# Altium footprint library Adeept.PcbLib: 37 footprints (part 3 of 3)
Each footprint in its own frame and in the unit in brackets; x right, y up, seen from the top. Pads: shape width x height; smd on the part's side, far side on the other; paste and mask are expansions set on the pad; w line width, h text height; cw(c..) or ccw(c..) is an arc to the next point about the centre after c.
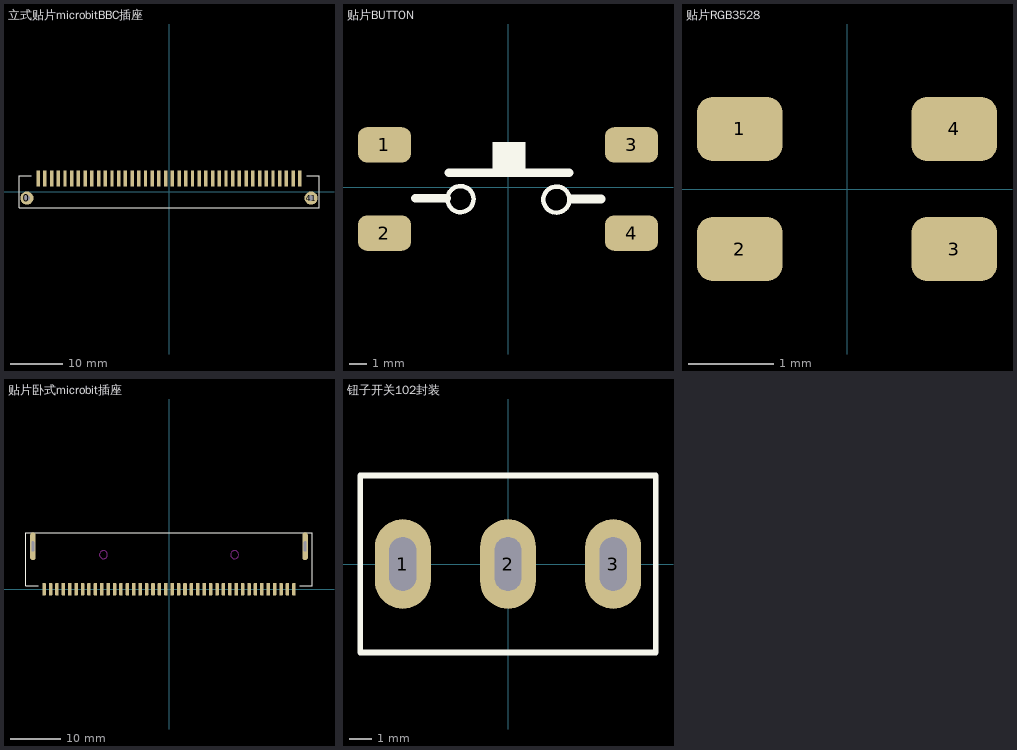
[diagram p2: the footprints below, top view; thin cyan lines are the x and y axes]

## 立式贴片microbitBBC插座 [mm]
pads (42):
  round 2.5 hole 1.1: 0(-26.9,-1.2) 41(26.9,-1.2)
  rect 0.65x3 smd: 1(24.765,2.54) 2(23.495,2.54) 3(22.225,2.54) 4(20.955,2.54) 5(19.685,2.54) 6(18.415,2.54) 7(17.145,2.54) 8(15.875,2.54) 9(14.605,2.54) 10(13.335,2.54) 11(12.065,2.54) 12(10.795,2.54) 13(9.525,2.54) 14(8.255,2.54) 15(6.985,2.54) 16(5.715,2.54) 17(4.445,2.54) 18(3.175,2.54) 19(1.905,2.54) 20(0.635,2.54) 21(-0.635,2.54) 22(-1.905,2.54) 23(-3.175,2.54) 24(-4.445,2.54) 25(-5.715,2.54) 26(-6.985,2.54) 27(-8.255,2.54) 28(-9.525,2.54) 29(-10.795,2.54) 30(-12.065,2.54) 31(-13.335,2.54) 32(-14.605,2.54) 33(-15.875,2.54) 34(-17.145,2.54) 35(-18.415,2.54) 36(-19.685,2.54) 37(-20.955,2.54) 38(-22.225,2.54) 39(-23.495,2.54) 40(-24.765,2.54)
Top Overlay:
  lines w0.2: -26.063,3 -28.4,3 -28.4,-3 28.4,-3 28.4,3 26.035,3

## 贴片BUTTON [mm]
pads (4):
  rrect50% 3x2 smd: 1(-7,2.413) 2(-7,-2.587) 3(7,2.413) 4(7,-2.587)
Top Overlay:
  circle w0.254: c2.743,-0.686 r0.738
  circle w0.254: c-2.692,-0.66 r0.738
  rectangle: -0.889,0.889 0.991,2.565
  lines w0.5: -5.258,-0.61 -3.48,-0.61 ; -3.353,0.838 3.454,0.838 ; 3.609,-0.66 5.283,-0.66

## 贴片RGB3528 [mm]
pads (4):
  rrect50% 1x0.75 smd: 1(-1.25,0.7) 2(-1.25,-0.7) 3(1.25,-0.7) 4(1.25,0.7)

## 贴片卧式microbit插座 [mm]
pads (42):
  oval 1.1x5.5 hole 0.5 slot 2 at 90 deg: 0(-27,8.51) 0(27,8.51)
  rrect50% 0.7x2.5 smd: 1(-24.765,0) 2(-23.495,0) 3(-22.225,0) 4(-20.955,0) 5(-19.685,0) 6(-18.415,0) 7(-17.145,0) 8(-15.875,0) 9(-14.605,0) 10(-13.335,0) 11(-12.065,0) 12(-10.795,0) 13(-9.525,0) 14(-8.255,0) 15(-6.985,0) 16(-5.715,0) 17(-4.445,0) 18(-3.175,0) 19(-1.905,0) 20(-0.635,0) 21(0.635,0) 22(1.905,0) 23(3.175,0) 24(4.445,0) 25(5.715,0) 26(6.985,0) 27(8.255,0) 28(9.525,0) 29(10.795,0) 30(12.065,0) 31(13.335,0) 32(14.605,0) 33(15.875,0) 34(17.145,0) 35(18.415,0) 36(19.685,0) 37(20.955,0) 38(22.225,0) 39(23.495,0) 40(24.765,0)
Top Overlay:
  lines w0.2: -25.925,0.652 -28.4,0.652 -28.4,11.252 28.4,11.252 28.4,0.652 25.916,0.652
Keep-Out Layer:
  circle w0.1: c13,6.85 r0.8
  circle w0.1: c-13,6.85 r0.8

## 钮子开关102封装 [mm]
pads (3):
  oval 2.5x4 hole 1.2 slot 2.4 at 90 deg: 1(-4.7,0) 2(0,0) 3(4.7,0)
Top Overlay:
  lines w0.254: -6.6,-3.95 -6.6,3.95 6.6,3.95 6.6,-3.95 -6.6,-3.95